# EAGLE library part LILY-W132 (library mbed-HDK-MF-UBLOX)
LILY-W132: Host-based Wi-Fi module u-blox.com
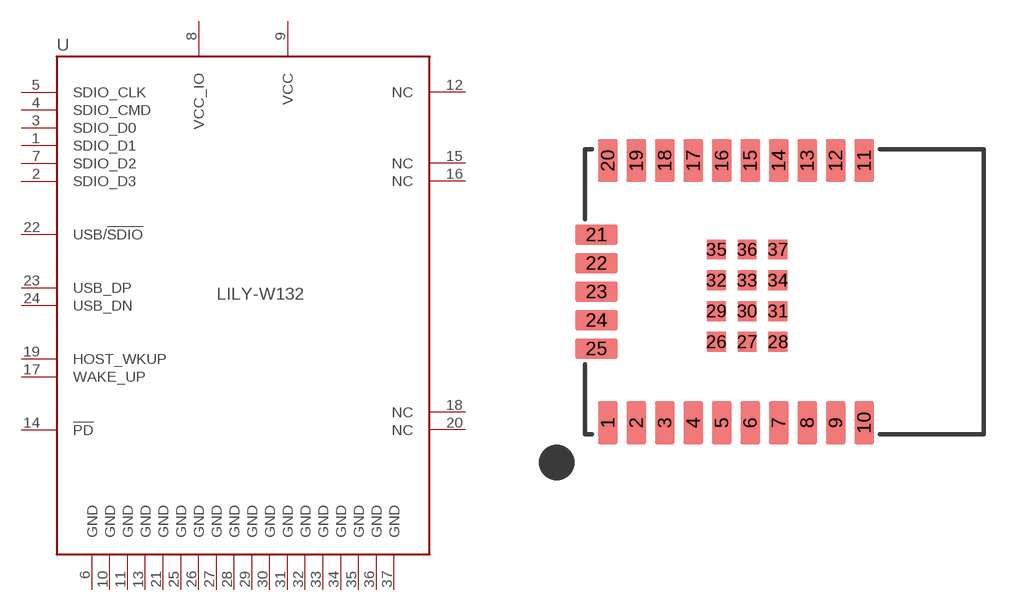
[diagram p9: symbol with the pads of LILY-37; footprint LILY-37]

Designator prefix U

## LILY-W132  [LILY-37]
1  SDIO_D1
2  SDIO_D3
3  SDIO_D0
4  SDIO_CMD
5  SDIO_CLK  in
6  GND  pwr
7  SDIO_D2
8  VCC_IO  pwr
9  VCC  pwr
10  GND  pwr
11  GND  pwr
12  NC  nc
13  GND  pwr
14  !PD  in
15  NC  nc
16  NC  nc
17  WAKE_UP  in
18  NC  nc
19  HOST_WKUP  out
20  NC  nc
21  GND  pwr
22  USB/!SDIO  in
23  USB_DP
24  USB_DN
25  GND  pwr
26  GND  pwr
27  GND  pwr
28  GND  pwr
29  GND  pwr
30  GND  pwr
31  GND  pwr
32  GND  pwr
33  GND  pwr
34  GND  pwr
35  GND  pwr
36  GND  pwr
37  GND  pwr

## Footprint LILY-37 (pad centres in mm)
LILY-W1: Castellated Package 37 Pin u-blox.com
smd 0.7 x 1.5: 1 -6.2,-4.6; 2 -5.2,-4.6; 3 -4.2,-4.6; 4 -3.2,-4.6; 5 -2.2,-4.6; 6 -1.2,-4.6; 7 -0.2,-4.6; 8 0.8,-4.6; 9 1.8,-4.6; 10 2.8,-4.6; 11 2.8,4.6; 12 1.8,4.6; 13 0.8,4.6; 14 -0.2,4.6; 15 -1.2,4.6; 16 -2.2,4.6; 17 -3.2,4.6; 18 -4.2,4.6; 19 -5.2,4.6; 20 -6.2,4.6
smd 1.5 x 0.7: 21 -6.6,2; 22 -6.6,1; 23 -6.6,0; 24 -6.6,-1; 25 -6.6,-2
smd 0.7 x 0.7: 26 -2.39,-1.76; 27 -1.31,-1.76; 28 -0.23,-1.76; 29 -2.39,-0.68; 30 -1.31,-0.68; 31 -0.23,-0.68; 32 -2.39,0.4; 33 -1.31,0.4; 34 -0.23,0.4; 35 -2.39,1.48; 36 -1.31,1.48; 37 -0.23,1.48